# EAGLE library part XR2206CP-F (library Exar_By_element14_Batch_1)
Monolithic Function Generator
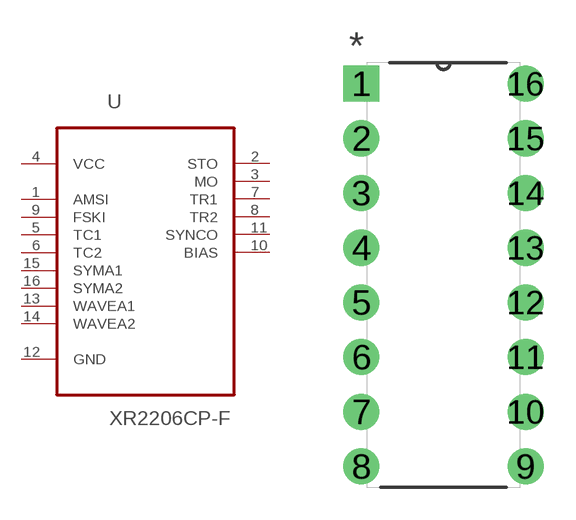
[diagram p79: symbol with the pads of DIP254P762X533-16; footprint DIP254P762X533-16]

Designator prefix U

## XR2206CP-F (MPN: XR2206CP-F; OC_FARNELL: 1798670; OC_NEWARK: 24R2365; PACKAGE: PDIP-16; SUPPLIER: EXAR)  [DIP254P762X533-16]
1  AMSI  in
2  STO  out
3  MO  out
4  VCC  pwr
5  TC1  in
6  TC2  in
7  TR1  out
8  TR2  out
9  FSKI  in
10  BIAS  out
11  SYNCO  out
12  GND  pas
13  WAVEA1  in
14  WAVEA2  in
15  SYMA1  in
16  SYMA2  in

## Footprint DIP254P762X533-16 (pad centres in mm)
drill 1.118 square: 1 -7.62,17.78
drill 1.118: 2 -7.62,15.24; 3 -7.62,12.7; 4 -7.62,10.16; 5 -7.62,7.62; 6 -7.62,5.08; 7 -7.62,2.54; 8 -7.62,0; 9 0,0; 10 0,2.54; 11 0,5.08; 12 0,7.62; 13 0,10.16; 14 0,12.7; 15 0,15.24; 16 0,17.78